# Altium integrated library ESP32_CAM.IntLib: 1 symbol
Pins are listed as number, name and electrical type; pins without a type are passive.

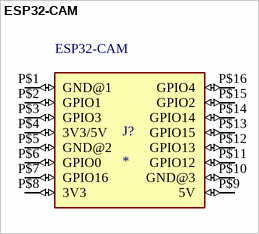
[diagram p0: symbol ESP32-CAM]

## ESP32-CAM
designator J?
ESP32 ESP32 Transceiver; 802.11 a/b/g/n (Wi-Fi, WiFi, WLAN), BluetoothÂ® Smart 4.x Low Energy (BLE) Evaluation Board; MF: AI-Thinker; MP: ESP32-CAM; SnapEDA_Link: https://www.snapeda.com/parts/ESP32-CAM/AI-Thinker/view-part/?ref=snap; Package: None; Value: *; Check_prices: https://www.snapeda.com/parts/ESP32-CAM/AI-Thinker/view-part/?ref=eda
footprint ESP32-CAM
pins: P$1 GND@1 (io), P$2 GPIO1 (io), P$3 GPIO3 (io), P$4 3V3/5V (io), P$5 GND@2 (io), P$6 GPIO0 (io), P$7 GPIO16 (io), P$8 3V3 (io), P$9 5V (io), P$10 GND@3 (io), P$11 GPIO12 (io), P$12 GPIO13 (io), P$13 GPIO15 (io), P$14 GPIO14 (io), P$15 GPIO2 (io), P$16 GPIO4 (io)